# EAGLE library part IC_IR2133? (library psas_eagle_library)
IR2133 Three Phase MOSFET Driver in 44pin PLCC minus 12 pins
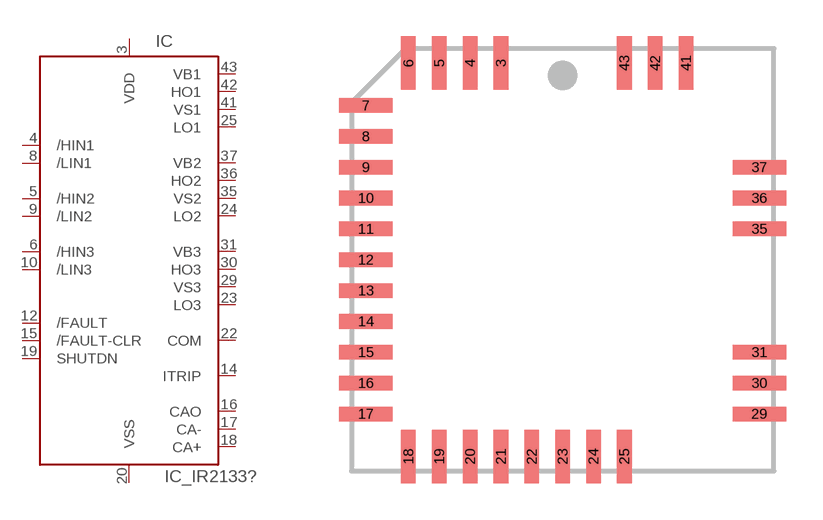
[diagram p2: symbol with the pads of PLCC44MINUS12; footprint PLCC44MINUS12]

Designator prefix IC

## IC_IR2133J  [PLCC44MINUS12]
3  VDD  pwr
4  /HIN1  in
5  /HIN2  in
6  /HIN3  in
8  /LIN1  in
9  /LIN2  in
10  /LIN3  in
12  /FAULT  out
14  ITRIP  pas
15  /FAULT-CLR  in
16  CAO  pas
17  CA-  pas
18  CA+  pas
19  SHUTDN  in
20  VSS  pwr
22  COM  pas
23  LO3  pas
24  LO2  pas
25  LO1  pas
29  VS3  pas
30  HO3  pas
31  VB3  pas
35  VS2  pas
36  HO2  pas
37  VB2  pas
41  VS1  pas
42  HO1  pas
43  VB1  pas

## Footprint PLCC44MINUS12 (pad centres in mm)
PLCC 44 minus 12 Form factor used by various International Rectifier multi-phase motor drivers.
smd 0.6 x 2.2: 3 -2.54,8.1; 4 -3.81,8.1; 5 -5.08,8.1; 6 -6.35,8.1; 18 -6.35,-8.1; 19 -5.08,-8.1; 20 -3.81,-8.1; 21 -2.54,-8.1; 22 -1.27,-8.1; 23 0,-8.1; 24 1.27,-8.1; 25 2.54,-8.1; 41 5.08,8.1; 42 3.81,8.1; 43 2.54,8.1
smd 2.2 x 0.6: 7 -8.1,6.35; 8 -8.1,5.08; 9 -8.1,3.81; 10 -8.1,2.54; 11 -8.1,1.27; 12 -8.1,0; 13 -8.1,-1.27; 14 -8.1,-2.54; 15 -8.1,-3.81; 16 -8.1,-5.08; 17 -8.1,-6.35; 29 8.1,-6.35; 30 8.1,-5.08; 31 8.1,-3.81; 35 8.1,1.27; 36 8.1,2.54; 37 8.1,3.81